# EAGLE library part VOCORE_V10 (library vocore)
VoCore module footprint, revision 1.0a Based on: http://vonger.cn/wp-content/uploads/2014/06/VoCore.v1.0a.pcb_.pdf Found a bug? Get in touch or send a pull request at https://github.com/omerk/vocore-evk
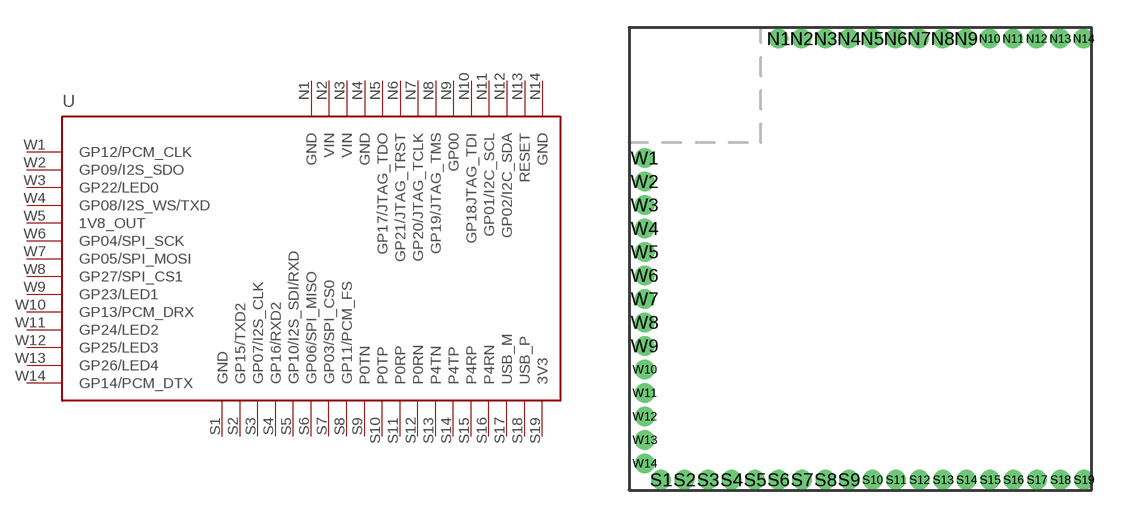
[diagram p0: symbol with the pads of VOCORE_V10; footprint VOCORE_V10]

Designator prefix -

## VOCORE_V10  [VOCORE_V10]
N1  GND  pwr
N2  VIN  pwr
N3  VIN  pwr
N4  GND  pwr
N5  GP17/JTAG_TDO
N6  GP21/JTAG_TRST
N7  GP20/JTAG_TCLK
N8  GP19/JTAG_TMS
N9  GP00
N10  GP18JTAG_TDI
N11  GP01/I2C_SCL
N12  GP02/I2C_SDA
N13  RESET
N14  GND
S1  GND  pwr
S2  GP15/TXD2
S3  GP07/I2S_CLK
S4  GP16/RXD2
S5  GP10/I2S_SDI/RXD
S6  GP06/SPI_MISO
S7  GP03/SPI_CS0
S8  GP11/PCM_FS
S9  P0TN
S10  P0TP
S11  P0RP
S12  P0RN
S13  P4TN
S14  P4TP
S15  P4RP
S16  P4RN
S17  USB_M
S18  USB_P
S19  3V3  pwr
W1  GP12/PCM_CLK
W2  GP09/I2S_SDO
W3  GP22/LED0
W4  GP08/I2S_WS/TXD
W5  1V8_OUT  pwr
W6  GP04/SPI_SCK
W7  GP05/SPI_MOSI
W8  GP27/SPI_CS1
W9  GP23/LED1
W10  GP13/PCM_DRX
W11  GP24/LED2
W12  GP25/LED3
W13  GP26/LED4
W14  GP14/PCM_DTX

## Footprint VOCORE_V10 (pad centres in mm)
drill 0.55 pad 0.906: N1 -4.423,11.909; N2 -3.176,11.912; N3 -1.883,11.909; N4 -0.613,11.909; N5 0.634,11.912; N6 1.904,11.912; N7 3.174,11.912; N8 4.444,11.912; N9 5.714,11.912; N10 6.984,11.912; N11 8.254,11.912; N12 9.524,11.912; N13 10.794,11.912; N14 12.064,11.912; S1 -10.773,-11.941; S2 -9.503,-11.941; S3 -8.233,-11.941; S4 -6.963,-11.941; S5 -5.693,-11.941; S6 -4.423,-11.941; S7 -3.153,-11.941; S8 -1.883,-11.941; S9 -0.613,-11.941; S10 0.657,-11.941; S11 1.927,-11.941; S12 3.197,-11.941; S13 4.467,-11.941; S14 5.737,-11.941; S15 7.007,-11.941; S16 8.277,-11.941; S17 9.547,-11.941; S18 10.817,-11.941; S19 12.087,-11.941; W1 -11.662,5.458; W2 -11.662,4.188; W3 -11.662,2.918; W4 -11.662,1.648; W5 -11.662,0.378; W6 -11.662,-0.892; W7 -11.662,-2.162; W8 -11.662,-3.432; W9 -11.662,-4.702; W10 -11.662,-5.972; W11 -11.662,-7.242; W12 -11.662,-8.512; W13 -11.662,-9.782; W14 -11.662,-11.052